# EAGLE library part MIS-019-01-H-D-EM2 (library Sombeck_lib)
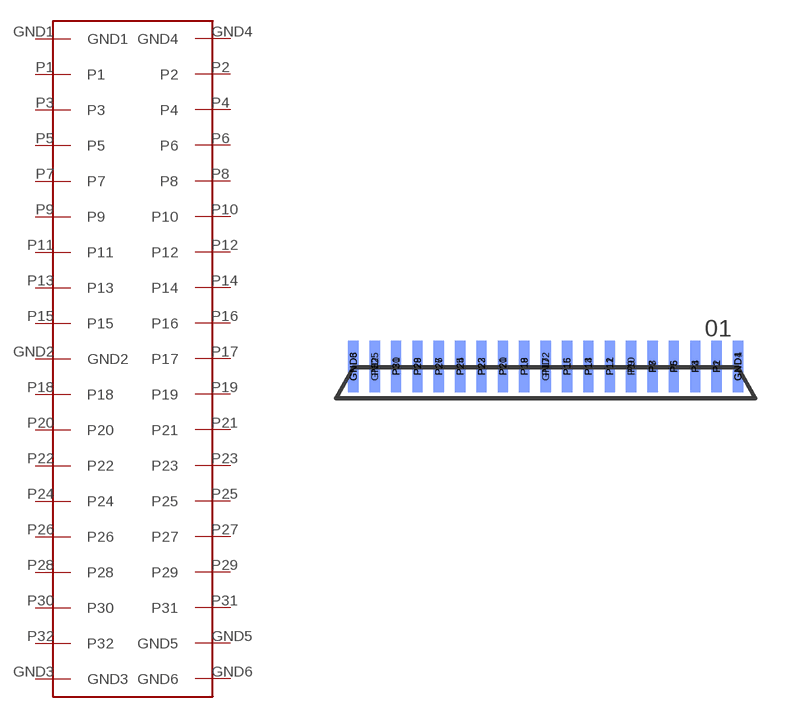
[diagram p0: symbol with the pads of MIS-019-01-H-D-EM2; footprint MIS-019-01-H-D-EM2]

Designator prefix -

## MIS-019-01-H-D-EM2  [MIS-019-01-H-D-EM2]
GND1  GND1
GND2  GND2
GND3  GND3
GND4  GND4
GND5  GND5
GND6  GND6
P1  P1
P2  P2
P3  P3
P4  P4
P5  P5
P6  P6
P7  P7
P8  P8
P9  P9
P10  P10
P11  P11
P12  P12
P13  P13
P14  P14
P15  P15
P16  P16
P17  P17
P18  P18
P19  P19
P20  P20
P21  P21
P22  P22
P23  P23
P24  P24
P25  P25
P26  P26
P27  P27
P28  P28
P29  P29
P30  P30
P31  P31
P32  P32

## Footprint MIS-019-01-H-D-EM2 (pad centres in mm)
smd 0.305 x 1.524: GND1 11.43,-0.762; GND2 5.715,-0.762; GND3 0,-0.762; P1 10.795,-0.762; P3 10.16,-0.762; P5 9.525,-0.762; P7 8.89,-0.762; P9 8.255,-0.762; P11 7.62,-0.762; P13 6.985,-0.762; P15 6.35,-0.762; P18 5.08,-0.762; P20 4.445,-0.762; P22 3.81,-0.762; P24 3.175,-0.762; P26 2.54,-0.762; P28 1.905,-0.762; P30 1.27,-0.762; P32 0.635,-0.762
smd 0.305 x 1.524 bottom: GND4 11.43,-0.762; GND5 0.635,-0.762; GND6 0,-0.762; P2 10.795,-0.762; P4 10.16,-0.762; P6 9.525,-0.762; P8 8.89,-0.762; P10 8.255,-0.762; P12 7.62,-0.762; P14 6.985,-0.762; P16 6.35,-0.762; P17 5.715,-0.762; P19 5.08,-0.762; P21 4.445,-0.762; P23 3.81,-0.762; P25 3.175,-0.762; P27 2.54,-0.762; P29 1.905,-0.762; P31 1.27,-0.762